# Altium schematic symbol library SCH - SENSOR - PRESSURE - Honeywell HSCMAND150PA4A3.SCHLIB: 1 symbol
Pins are listed as number, name and electrical type; pins without a type are passive.

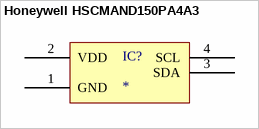
[diagram p0: symbol Honeywell HSCMAND150PA4A3]

## Honeywell HSCMAND150PA4A3
designator IC?
pins: 1 GND "Ground", 2 VDD "Positive supply voltage", 3 SDA "Serial Data input/I2C data IO", 4 SCL "Serial Data Clock"